# Altium integrated library Flanery.IntLib: 130 symbols (part 2 of 2)
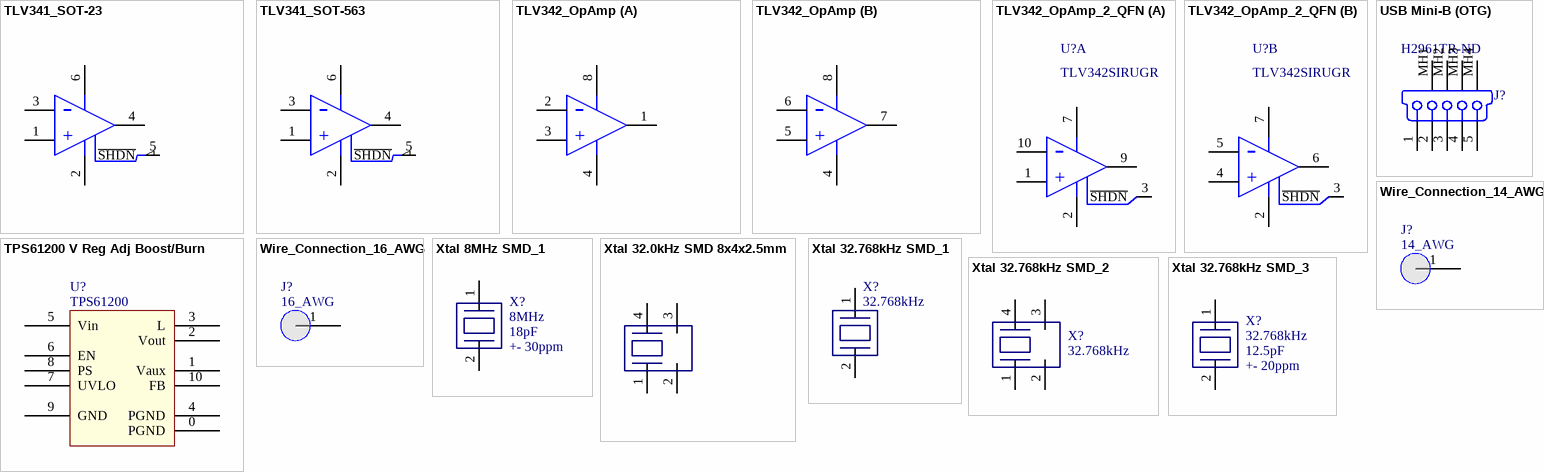
[diagram p5: symbols TLV341_SOT-23 to Xtal 32.768kHz SMD_3]

## TLV342_OpAmp
designator U?, comment TLV342
Dual Op-Amp 2.3MHz 1.8-5V 70uA/Chan; Inventory Location: None; Supplier 1: Digi-Key; Supplier Part Number 1: 296-21128-1-ND
pins on every part: 4 GND, 8 V+
part A pins: 1 1OUT, 2 1IN-, 3 1IN+
part B pins: 5 2IN+, 6 2IN-, 7 2OUT
part A text: -; +
part B text: -; +

## TLV342_OpAmp_2_QFN
designator U?, comment TLV342SIRUGR
QFN-10 Dual Op-Amp w/ shutdown 2.3MHz 1.8-5V 70uA/Chan; Inventory Location: None; Supplier 1: Digi-Key; Supplier Part Number 1: 296-24767-1-ND; Supplier 2: Newark; Supplier Part Number 2: 71M0458
footprint QFN10 50P200X150X40-10M (QFN, 10-Leads, Body 1.5x2.0mm (max), Pitch 0.50mm, IPC Low Density)
pins on every part: 2 GND, 3 ~{SHDN}, 7 V+, 8 NC hidden
part A pins: 1 1IN+, 9 1OUT, 10 1IN-
part B pins: 4 2IN+, 5 2IN-, 6 2OUT
part A text: -; +
part B text: -; +

## TPS61200 V Reg Adj Boost/Burn
designator U?, comment TPS61200
Vreg Sw Boost 600mA 0.3-5.5Vin, 1.8-5.5Vout; Fabrication Tested: NO; Creator and Date: Will Flanery 2010-07-12; Footprint Verified By: *; Schematic Verified By: *; Vendor Info Verified By: *; Supplier 1: Digi-Key; Supplier Part Number 1: 296-21663-1-ND; Supplier 2: Newark; Supplier Part Number 2: 37M0066
footprint QFN10 with PowerPad (TI DRC (S-PVSON-N10))
pins: 0 PGND, 1 Vaux, 2 Vout, 3 L, 4 PGND, 5 Vin, 6 EN, 7 UVLO, 8 PS, 9 GND, 10 FB

## USB Mini-B (OTG)
designator J?  Supplier Part Number 1: H2961TR-ND
USB (OTG) Mini-B; PCB_Layout: Complies with Manufacturer's Recommendation.; Published: 21-Sep-2007; DatasheetVersion: revA, May-2004; PackageVersion: May-2004; PackageReference: 481900001; Publisher: Altium Limited; PackageDescription: USB Mini-B, Sinking Type, SM; 5 Position; Right Angle, Body 11.45 x 11.8 x 3.9 mm (LxWxH); ComponentLink1Description: Manufacturer Link; ComponentLink1URL: http://www.molex.com/; ComponentLink2Description: Datasheet; ComponentLink2URL: http://www.molex.com/cmc_upload/0/000/895/958/SD-48190-001RevA.pdf; Supplier 1: Digi-Key
footprint USB-Mini-B (Connector; USB Mini-B, Sinking Type, SM; 5 Position; Right Angle)
signal-integrity model USB Mini-B
pins: 1 V BUS (5V) "USB Vcc [Red]", 2 D- "USB Data - [White]", 3 D+ "USB Data + [Green]", 4 NC "Not Connected (or joined to pin 5 via resistor)", 5 GND "Ground [Black]", MH1 Tab "Shell", MH2 Tab "Shell", MH3 Tab "Shell", MH4 Tab "Shell"

## Wire_Connection_14_AWG
designator J?, comment 14_AWG  (no BOM)
14 AWG Wire Connection Pad
footprint Wire_Connection_Pad_14_AWG (Through-hole solder pad for a 14 gage, stranded wire.)
pins: 1

## Wire_Connection_16_AWG
designator J?, comment 16_AWG  (no BOM)
16 AWG Wire Connection Pad
footprint Wire_Connection_Pad_16_AWG (Through-hole solder pad for a 16 gage, stranded wire.)
pins: 1

## Xtal 8MHz SMD_1
designator X?, comment 8MHz  Tollerance: +- 30ppm  Capacitance: 18pF
18pF SMD 5.0x3.2x1.30mm 8MHz +-30ppm; Manufacturer: Abracon Corporation; Manufacturer Part Number: ABM3-8.000MHZ-D2Y-T; Fabrication Tested: NO; Creator and Date: Will Flanery 2010-08-23; Footprint Verified By: *; Schematic Verified By: *; Vendor Info Verified By: *; Value: 8MHz; HelpURL: http://www.abracon.com/Resonators/abm3.pdf; Supplier 1: Digi-Key; Supplier Part Number 1: 535-10630-1-ND
footprint XTAL-ABM3
pins: 1, 2

## Xtal 32.0kHz SMD 8x4x2.5mm
designator X?, comment 32.0kHz
Xtal 32.0kHz SMD 8x4x2.5mm; Fabrication Tested: NO; Creator and Date: Willl Flanery 2010-06-14; Footprint Verified By: *; Schematic Verified By: *; Vendor Info Verified By: *; Supplier 1: Digi-Key; Supplier Part Number 1: 300-8744-1-ND
footprint Xtal SMD_1 (8Lx4Wx2.5H mm Xtal btwn pins 1,4)
pins: 1, 2, 3, 4

## Xtal 32.768kHz SMD_1
designator X?, comment 32.768kHz
12.5pF SMD cylinder 6x2mm 32.768kHz+-20ppm; Fabrication Tested: NO; Creator and Date: Will Flanery 2010-06-15; Footprint Verified By: *; Schematic Verified By: *; Vendor Info Verified By: *; Supplier 1: Digi-Key; Supplier Part Number 1: 535-9033-1-ND; Supplier 2: Newark; Supplier Part Number 2: 13J1807
pins: 1, 2

## Xtal 32.768kHz SMD_2
designator X?, comment 32.768kHz
12.5pF SMD 6.9Lx1.4Wx1.3Hmm 32.768kHz+-20ppm; Fabrication Tested: NO; Creator and Date: Will Flanery 2010-06-15; Footprint Verified By: *; Schematic Verified By: *; Vendor Info Verified By: *; Supplier 1: Newark; Supplier Part Number 1: 13J1803; Supplier 2: Digi-Key; Supplier Part Number 2: 535-9165-1-ND
footprint Xtal SMD_2 (6.9Lx1.4Wx1.3H mm Xtal btwn pins 1,4)
pins: 1, 2, 3, 4

## Xtal 32.768kHz SMD_3
designator X?, comment 32.768kHz  Tollerance: +- 20ppm  Capacitance: 12.5pF
12.5pF SMD 2x1.2x0.6mm 32.768kHz+-10ppm; Fabrication Tested: NO; Creator and Date: Will Flanery 2010-08-23; Footprint Verified By: *; Schematic Verified By: *; Vendor Info Verified By: *; Supplier 1: Digi-Key; Supplier Part Number 1: 535-10248-1-ND; Supplier 2: Newark; Supplier Part Number 2: 60R3990; HelpURL: http://www.abracon.com/Resonators/ABS06.pdf
footprint Xtal SMD_3 (2x1x0.6mm)
pins: 1, 2